# Altium footprint library PCB-Tester-Relay-Board.PcbLib: 41 footprints (part 3 of 3)
Each footprint in its own frame and in the unit in brackets; x right, y up, seen from the top. Pads: shape width x height; smd on the part's side, far side on the other; paste and mask are expansions set on the pad; w line width, h text height; cw(c..) or ccw(c..) is an arc to the next point about the centre after c.
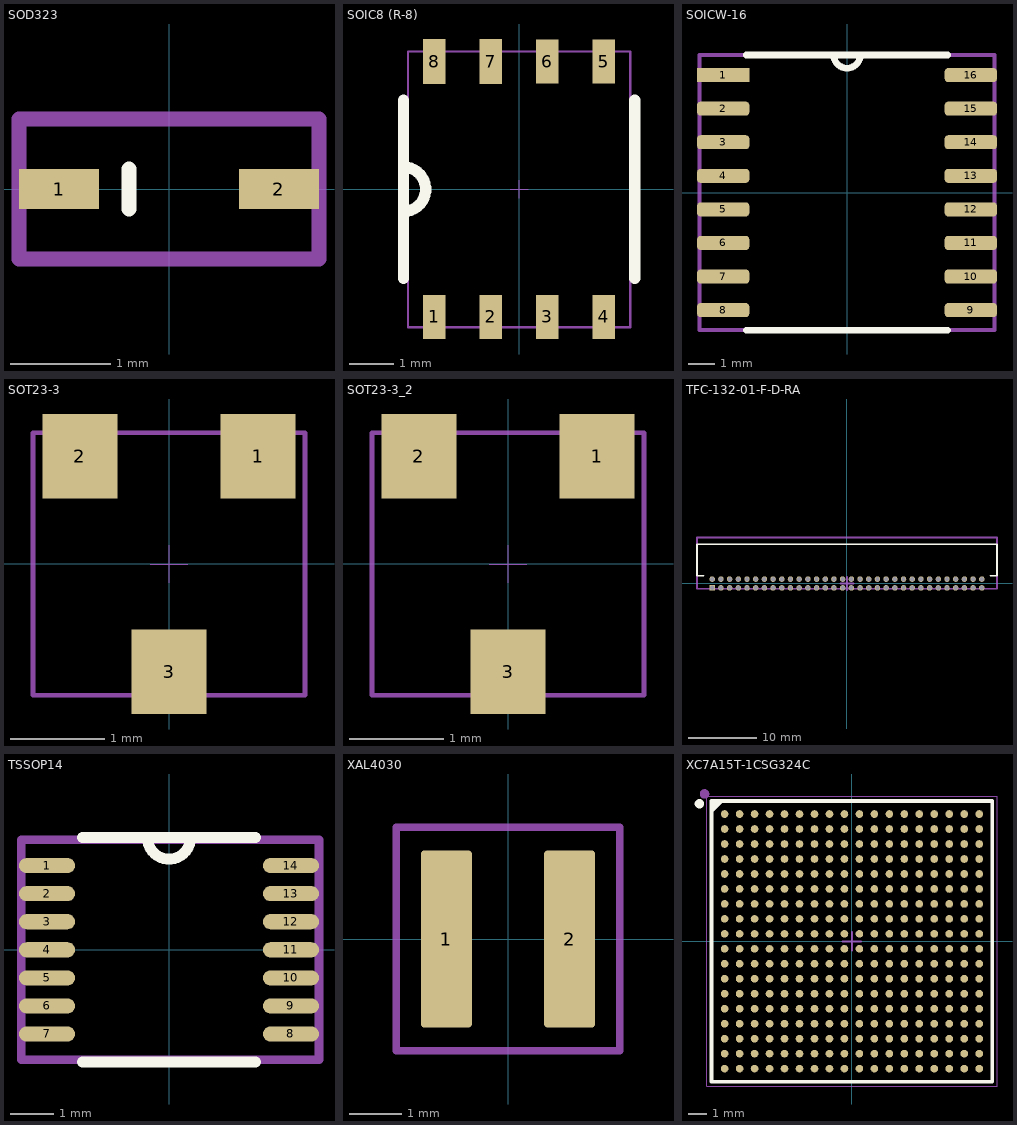
[diagram p2: the footprints below, top view; thin cyan lines are the x and y axes]

## SOD323 [mm] "Plastic surface-mounted package; 2 leads"
height 1
pads (2):
  rect 0.8x0.4 smd: 1(-1.1,0) 2(1.1,0)
Top Overlay:
  lines w0.152: -0.4,-0.2 -0.4,0.2
Top Courtyard:
  lines w0.152: -1.5,-0.7 -1.5,0.7 1.5,0.7 1.5,-0.7 0,-0.7 -1.5,-0.7
3D body: height 0.15, standoff 0, extent 1,-0.15 1.35,0.15
3D body: height 0.6, standoff 0, extent 0.9,-0.15 1,0.15
3D body: height 0.6, standoff 0, extent -1,-0.15 -0.9,0.15
3D body: height 0.15, standoff 0, extent -1.35,-0.15 -1,0.15
3D body: height 1.01, standoff 1, extent -0.6,-0.4 -0.4,0.4
3D body: height 1, standoff 0, extent -0.9,-0.7 0.9,0.7

## SOIC8 (R-8) [mil] "Generic 8 lead SOIC Narrow Body"
height 69
pads (8):
  rect 20x39 smd: 1(-75,-113) 2(-25,-113) 3(25,-113) 4(75,-113) 5(75,113) 6(25,113)
  rect 20x40 smd: 7(-25,113) 8(-75,113)
Top Overlay:
  lines w10: -102.36,-78.74 -102.36,78.74 ; -102.36,-19.68 ccw(c-102.36,0) -102.36,19.68 ; 102.36,-78.74 102.36,78.74
Top Courtyard:
  lines w1.97: -98.42,-122.04 -98.42,122.06 98.43,122.06 98.43,-122.04 -98.42,-122.04
Mechanical 17:
  lines w0.51: -7.87,0 7.87,0 ; 0,-7.87 0,7.87
3D body "SOIC8N.step": height 68.9, standoff 0, extent -98.42,-122.04 98.43,122.06

## SOICW-16 [mm] "16-lead wide SOIC package"
height 2.65
pads (16):
  rect 1.98x0.53 smd: 1(-4.685,4.445)
  rrect50% 1.98x0.53 smd: 2(-4.685,3.175) 3(-4.685,1.905) 4(-4.685,0.635) 5(-4.685,-0.635) 6(-4.685,-1.905) 7(-4.685,-3.175) 8(-4.685,-4.445) 9(4.685,-4.445) 10(4.685,-3.175) 11(4.685,-1.905) 12(4.685,-0.635) 13(4.685,0.635) 14(4.685,1.905) 15(4.685,3.175) 16(4.685,4.445)
Top Overlay:
  lines w0.254: -3.81,-5.207 3.81,-5.207 ; -3.81,5.207 3.81,5.207 ; -0.5,5.207 ccw(c0,5.207) 0.5,5.207
Top Courtyard:
  lines w0.15: -5.588,-5.207 5.588,-5.207 5.588,5.207 -5.588,5.207 -5.588,-5.207
3D body: height 1.45, standoff 1.2, extent -4.275,-4.645 -3.8,-4.245
3D body: height 1.45, standoff 0, extent -4.525,-4.645 -4.275,-4.245
3D body: height 0.25, standoff 0, extent -5.325,-4.645 -4.525,-4.245
3D body: height 0.25, standoff 0, extent 4.525,-4.645 5.325,-4.245
3D body: height 1.45, standoff 0, extent 4.275,-4.645 4.525,-4.245
3D body: height 1.45, standoff 1.2, extent 3.8,-4.645 4.275,-4.245
3D body: height 1.45, standoff 1.2, extent -4.275,-3.375 -3.8,-2.975
3D body: height 1.45, standoff 0, extent -4.525,-3.375 -4.275,-2.975
3D body: height 0.25, standoff 0, extent -5.325,-3.375 -4.525,-2.975
3D body: height 0.25, standoff 0, extent 4.525,-3.375 5.325,-2.975
3D body: height 1.45, standoff 0, extent 4.275,-3.375 4.525,-2.975
3D body: height 1.45, standoff 1.2, extent 3.8,-3.375 4.275,-2.975
3D body: height 1.45, standoff 1.2, extent -4.275,-2.105 -3.8,-1.705
3D body: height 1.45, standoff 0, extent -4.525,-2.105 -4.275,-1.705
3D body: height 0.25, standoff 0, extent -5.325,-2.105 -4.525,-1.705
3D body: height 0.25, standoff 0, extent 4.525,-2.105 5.325,-1.705
3D body: height 1.45, standoff 0, extent 4.275,-2.105 4.525,-1.705
3D body: height 1.45, standoff 1.2, extent 3.8,-2.105 4.275,-1.705
3D body: height 1.45, standoff 1.2, extent -4.275,-0.835 -3.8,-0.435
3D body: height 1.45, standoff 0, extent -4.525,-0.835 -4.275,-0.435
3D body: height 0.25, standoff 0, extent -5.325,-0.835 -4.525,-0.435
3D body: height 0.25, standoff 0, extent 4.525,-0.835 5.325,-0.435
3D body: height 1.45, standoff 0, extent 4.275,-0.835 4.525,-0.435
3D body: height 1.45, standoff 1.2, extent 3.8,-0.835 4.275,-0.435
3D body: height 1.45, standoff 1.2, extent -4.275,0.435 -3.8,0.835
3D body: height 1.45, standoff 0, extent -4.525,0.435 -4.275,0.835
3D body: height 0.25, standoff 0, extent -5.325,0.435 -4.525,0.835
3D body: height 0.25, standoff 0, extent 4.525,0.435 5.325,0.835
3D body: height 1.45, standoff 0, extent 4.275,0.435 4.525,0.835
3D body: height 1.45, standoff 1.2, extent 3.8,0.435 4.275,0.835
3D body: height 1.45, standoff 1.2, extent -4.275,1.705 -3.8,2.105
3D body: height 1.45, standoff 0, extent -4.525,1.705 -4.275,2.105
3D body: height 0.25, standoff 0, extent -5.325,1.705 -4.525,2.105
3D body: height 0.25, standoff 0, extent 4.525,1.705 5.325,2.105
3D body: height 1.45, standoff 0, extent 4.275,1.705 4.525,2.105
3D body: height 1.45, standoff 1.2, extent 3.8,1.705 4.275,2.105
3D body: height 1.45, standoff 1.2, extent -4.275,2.975 -3.8,3.375
3D body: height 1.45, standoff 0, extent -4.525,2.975 -4.275,3.375
3D body: height 0.25, standoff 0, extent -5.325,2.975 -4.525,3.375
3D body: height 0.25, standoff 0, extent 4.525,2.975 5.325,3.375
3D body: height 1.45, standoff 0, extent 4.275,2.975 4.525,3.375
3D body: height 1.45, standoff 1.2, extent 3.8,2.975 4.275,3.375
3D body: height 1.45, standoff 1.2, extent -4.275,4.245 -3.8,4.645
3D body: height 1.45, standoff 0, extent -4.525,4.245 -4.275,4.645
3D body: height 0.25, standoff 0, extent -5.325,4.245 -4.525,4.645
3D body: height 0.25, standoff 0, extent 4.525,4.245 5.325,4.645
3D body: height 1.45, standoff 0, extent 4.275,4.245 4.525,4.645
3D body: height 1.45, standoff 1.2, extent 3.8,4.245 4.275,4.645
3D body: height 2.65, standoff 0, extent -3.8,-5.25 3.8,5.25
3D body: height 2.66, standoff 2.65, extent -3.298,3.809 -2.3,4.805

## SOT23-3 [mm]
pads (3):
  rect 0.8x0.9 smd mask+0.1: 1(0.95,1.15) 2(-0.95,1.15) 3(0,-1.15)
Top Courtyard:
  lines w0.05: -1.45,-1.4 1.45,-1.4 1.45,1.4 -1.45,1.4 -1.45,-1.4
Mechanical 17:
  lines w0.013: -0.2,0 0.2,0 ; 0,-0.2 0,0.2
3D body "SOT23-3.step": height 1.3, standoff 0, extent -1.45,-1.4 1.45,1.4

## SOT23-3_2 [mm]
pads (3):
  rect 0.8x0.9 smd mask+0.1: 1(0.95,1.15) 2(-0.95,1.15) 3(0,-1.15)
Top Courtyard:
  lines w0.05: -1.45,-1.4 1.45,-1.4 1.45,1.4 -1.45,1.4 -1.45,-1.4
Mechanical 17:
  lines w0.013: -0.2,0 0.2,0 ; 0,-0.2 0,0.2
3D body "SOT23-3.step": height 1.3, standoff 0, extent -1.45,-1.4 1.45,1.4

## TFC-132-01-F-D-RA [mm] "64 pin box header right angled"
pads (64):
  rect 0.8x0.8 hole 0.635 paste+0: 1(-19.685,-0.635)
  round 0.8 hole 0.635 paste+0: 2(-19.685,0.635) 3(-18.415,-0.635) 4(-18.415,0.635) 5(-17.145,-0.635) 6(-17.145,0.635) 7(-15.875,-0.635) 8(-15.875,0.635) 9(-14.605,-0.635) 10(-14.605,0.635) 11(-13.335,-0.635) 12(-13.335,0.635) 13(-12.065,-0.635) 14(-12.065,0.635) 15(-10.795,-0.635) 16(-10.795,0.635) 17(-9.525,-0.635) 18(-9.525,0.635) 19(-8.255,-0.635) 20(-8.255,0.635) 21(-6.985,-0.635) 22(-6.985,0.635) 23(-5.715,-0.635) 24(-5.715,0.635) 25(-4.445,-0.635) 26(-4.445,0.635) 27(-3.175,-0.635) 28(-3.175,0.635) 29(-1.905,-0.635) 30(-1.905,0.635) 31(-0.635,-0.635) 32(-0.635,0.635) 33(0.635,-0.635) 34(0.635,0.635) 35(1.905,-0.635) 36(1.905,0.635) 37(3.175,-0.635) 38(3.175,0.635) 39(4.445,-0.635) 40(4.445,0.635) 41(5.715,-0.635) 42(5.715,0.635) 43(6.985,-0.635) 44(6.985,0.635) 45(8.255,-0.635) 46(8.255,0.635) 47(9.525,-0.635) 48(9.525,0.635)
  round 0.8 hole 0.635 paste-1: 49(10.795,-0.635) 50(10.795,0.635) 51(12.065,-0.635) 52(12.065,0.635) 53(13.335,-0.635) 54(13.335,0.635) 55(14.605,-0.635) 56(14.605,0.635) 57(15.875,-0.635) 58(15.875,0.635) 59(17.145,-0.635) 60(17.145,0.635) 61(18.415,-0.635) 62(18.415,0.635) 63(19.685,-0.635) 64(19.685,0.635)
Top Overlay:
  lines w0.254: -20.955,1.143 -21.907,1.143 -21.907,5.731 21.908,5.731 21.908,1.143 20.955,1.143
Top Courtyard:
  lines w0.254: -21.907,-0.762 21.908,-0.762 21.908,6.731 -21.907,6.731 -21.907,-0.762
Mechanical 17:
  lines w0.254: -1,0 1,0 ; 0,-1 0,1
3D body "TFC-132-01-F-D-RA.STEP": height 5.71, standoff -1.91, extent -21.907,-0.762 21.908,6.731

## TSSOP14 [mm]
height 1.1
pads (14):
  oval 1.3x0.35 smd: 1(-2.825,1.95) 2(-2.825,1.3) 3(-2.825,0.65) 4(-2.825,0) 5(-2.825,-0.65) 6(-2.825,-1.3) 7(-2.825,-1.95) 8(2.825,-1.95) 9(2.825,-1.3) 10(2.825,-0.65) 11(2.825,0) 12(2.825,0.65) 13(2.825,1.3) 14(2.825,1.95)
Top Overlay:
  lines w0.254: -2,-2.6 2,-2.6 ; -2,2.6 2,2.6 ; -0.5,2.6 ccw(c0,2.6) 0.5,2.6
Top Courtyard:
  lines w0.2: -3.424,-2.55 -3.424,2.55 3.475,2.55 3.475,-2.55 -3.424,-2.55
3D body: height 1.1, standoff 0.05, extent -2.25,-2.55 2.25,2.55

## XAL4030 [mm] "Shielded Power Inductor"
height 3.1
pads (2):
  rrect12% 0.98x3.4 smd: 1(-1.185,0) 2(1.185,0)
Top Courtyard:
  lines w0.15: -2.15,-2.15 2.15,-2.15 2.15,2.15 -2.15,2.15 -2.15,-2.15
3D body: height 3.1, standoff 3.1, extent -1.7,-1.7 -1.4,1.7
3D body: height 3.1, standoff 0, extent -2.15,-2.15 2.15,2.15

## XC7A15T-1CSG324C [mm] "BGA, 324-Leads, Body 15.00x15.00mmx1.50mm, Pitch 0.80mm"
height 1.5
pads (324):
  round 0.41 smd: A1(-6.8,6.8) A2(-6,6.8) A3(-5.2,6.8) A4(-4.4,6.8) A5(-3.6,6.8) A6(-2.8,6.8) A7(-2,6.8) A8(-1.2,6.8) A9(-0.4,6.8) A10(0.4,6.8) A11(1.2,6.8) A12(2,6.8) A13(2.8,6.8) A14(3.6,6.8) A15(4.4,6.8) A16(5.2,6.8) A17(6,6.8) A18(6.8,6.8) B1(-6.8,6) B2(-6,6) B3(-5.2,6) B4(-4.4,6) B5(-3.6,6) B6(-2.8,6) B7(-2,6) B8(-1.2,6) B9(-0.4,6) B10(0.4,6) B11(1.2,6) B12(2,6) B13(2.8,6) B14(3.6,6) B15(4.4,6) B16(5.2,6) B17(6,6) B18(6.8,6) C1(-6.8,5.2) C2(-6,5.2) C3(-5.2,5.2) C4(-4.4,5.2) C5(-3.6,5.2) C6(-2.8,5.2) C7(-2,5.2) C8(-1.2,5.2) C9(-0.4,5.2) C10(0.4,5.2) C11(1.2,5.2) C12(2,5.2) C13(2.8,5.2) C14(3.6,5.2) C15(4.4,5.2) C16(5.2,5.2) C17(6,5.2) C18(6.8,5.2) D1(-6.8,4.4) D2(-6,4.4) D3(-5.2,4.4) D4(-4.4,4.4) D5(-3.6,4.4) D6(-2.8,4.4) D7(-2,4.4) D8(-1.2,4.4) D9(-0.4,4.4) D10(0.4,4.4) D11(1.2,4.4) D12(2,4.4) D13(2.8,4.4) D14(3.6,4.4) D15(4.4,4.4) D16(5.2,4.4) D17(6,4.4) D18(6.8,4.4) E1(-6.8,3.6) E2(-6,3.6) E3(-5.2,3.6) E4(-4.4,3.6) E5(-3.6,3.6) E6(-2.8,3.6) E7(-2,3.6) E8(-1.2,3.6) E9(-0.4,3.6) E10(0.4,3.6) E11(1.2,3.6) E12(2,3.6) E13(2.8,3.6) E14(3.6,3.6) E15(4.4,3.6) E16(5.2,3.6) E17(6,3.6) E18(6.8,3.6) F1(-6.8,2.8) F2(-6,2.8) F3(-5.2,2.8) F4(-4.4,2.8) F5(-3.6,2.8) F6(-2.8,2.8) F7(-2,2.8) F8(-1.2,2.8) F9(-0.4,2.8) F10(0.4,2.8) F11(1.2,2.8) F12(2,2.8) F13(2.8,2.8) F14(3.6,2.8) F15(4.4,2.8) F16(5.2,2.8) F17(6,2.8) F18(6.8,2.8) G1(-6.8,2) G2(-6,2) G3(-5.2,2) G4(-4.4,2) G5(-3.6,2) G6(-2.8,2) G7(-2,2) G8(-1.2,2) G9(-0.4,2) G10(0.4,2) G11(1.2,2) G12(2,2) G13(2.8,2) G14(3.6,2) G15(4.4,2) G16(5.2,2) G17(6,2) G18(6.8,2) H1(-6.8,1.2) H2(-6,1.2) H3(-5.2,1.2) H4(-4.4,1.2) H5(-3.6,1.2) H6(-2.8,1.2) H7(-2,1.2) H8(-1.2,1.2) H9(-0.4,1.2) H10(0.4,1.2) H11(1.2,1.2) H12(2,1.2) H13(2.8,1.2) H14(3.6,1.2) H15(4.4,1.2) H16(5.2,1.2) H17(6,1.2) H18(6.8,1.2) J1(-6.8,0.4) J2(-6,0.4) J3(-5.2,0.4) J4(-4.4,0.4) J5(-3.6,0.4) J6(-2.8,0.4) J7(-2,0.4) J8(-1.2,0.4) J9(-0.4,0.4) J10(0.4,0.4) J11(1.2,0.4) J12(2,0.4) J13(2.8,0.4) J14(3.6,0.4) J15(4.4,0.4) J16(5.2,0.4) J17(6,0.4) J18(6.8,0.4) K1(-6.8,-0.4) K2(-6,-0.4) K3(-5.2,-0.4) K4(-4.4,-0.4) K5(-3.6,-0.4) K6(-2.8,-0.4) K7(-2,-0.4) K8(-1.2,-0.4) K9(-0.4,-0.4) K10(0.4,-0.4) K11(1.2,-0.4) K12(2,-0.4) K13(2.8,-0.4) K14(3.6,-0.4) K15(4.4,-0.4) K16(5.2,-0.4) K17(6,-0.4) K18(6.8,-0.4) L1(-6.8,-1.2) L2(-6,-1.2) L3(-5.2,-1.2) L4(-4.4,-1.2) L5(-3.6,-1.2) L6(-2.8,-1.2) L7(-2,-1.2) L8(-1.2,-1.2) L9(-0.4,-1.2) L10(0.4,-1.2) L11(1.2,-1.2) L12(2,-1.2) L13(2.8,-1.2) L14(3.6,-1.2) L15(4.4,-1.2) L16(5.2,-1.2) L17(6,-1.2) L18(6.8,-1.2) M1(-6.8,-2) M2(-6,-2) M3(-5.2,-2) M4(-4.4,-2) M5(-3.6,-2) M6(-2.8,-2) M7(-2,-2) M8(-1.2,-2) M9(-0.4,-2) M10(0.4,-2) M11(1.2,-2) M12(2,-2) M13(2.8,-2) M14(3.6,-2) M15(4.4,-2) M16(5.2,-2) M17(6,-2) M18(6.8,-2) N1(-6.8,-2.8) N2(-6,-2.8) N3(-5.2,-2.8) N4(-4.4,-2.8) N5(-3.6,-2.8) N6(-2.8,-2.8) N7(-2,-2.8) N8(-1.2,-2.8) N9(-0.4,-2.8) N10(0.4,-2.8) N11(1.2,-2.8) N12(2,-2.8) N13(2.8,-2.8) N14(3.6,-2.8) N15(4.4,-2.8) N16(5.2,-2.8) N17(6,-2.8) N18(6.8,-2.8) P1(-6.8,-3.6) P2(-6,-3.6) P3(-5.2,-3.6) P4(-4.4,-3.6) P5(-3.6,-3.6) P6(-2.8,-3.6) P7(-2,-3.6) P8(-1.2,-3.6) P9(-0.4,-3.6) P10(0.4,-3.6) P11(1.2,-3.6) P12(2,-3.6) P13(2.8,-3.6) P14(3.6,-3.6) P15(4.4,-3.6) P16(5.2,-3.6) P17(6,-3.6) P18(6.8,-3.6) R1(-6.8,-4.4) R2(-6,-4.4) R3(-5.2,-4.4) R4(-4.4,-4.4) R5(-3.6,-4.4) R6(-2.8,-4.4) R7(-2,-4.4) R8(-1.2,-4.4) R9(-0.4,-4.4) R10(0.4,-4.4) R11(1.2,-4.4) R12(2,-4.4) R13(2.8,-4.4) R14(3.6,-4.4) R15(4.4,-4.4) R16(5.2,-4.4) R17(6,-4.4) R18(6.8,-4.4) T1(-6.8,-5.2) T2(-6,-5.2) T3(-5.2,-5.2) T4(-4.4,-5.2) T5(-3.6,-5.2) T6(-2.8,-5.2) T7(-2,-5.2) T8(-1.2,-5.2) T9(-0.4,-5.2) T10(0.4,-5.2) T11(1.2,-5.2) T12(2,-5.2) T13(2.8,-5.2) T14(3.6,-5.2) T15(4.4,-5.2) T16(5.2,-5.2) T17(6,-5.2) T18(6.8,-5.2) U1(-6.8,-6) U2(-6,-6) U3(-5.2,-6) U4(-4.4,-6) U5(-3.6,-6) U6(-2.8,-6) U7(-2,-6) U8(-1.2,-6) U9(-0.4,-6) U10(0.4,-6) U11(1.2,-6) U12(2,-6) U13(2.8,-6) U14(3.6,-6) U15(4.4,-6) U16(5.2,-6) U17(6,-6) U18(6.8,-6) V1(-6.8,-6.8) V2(-6,-6.8) V3(-5.2,-6.8) V4(-4.4,-6.8) V5(-3.6,-6.8) V6(-2.8,-6.8) V7(-2,-6.8) V8(-1.2,-6.8) V9(-0.4,-6.8) V10(0.4,-6.8) V11(1.2,-6.8) V12(2,-6.8) V13(2.8,-6.8) V14(3.6,-6.8) V15(4.4,-6.8) V16(5.2,-6.8) V17(6,-6.8) V18(6.8,-6.8)
Top Overlay:
  circle w0.25: c-8.15,7.35 r0.125
  region: -6.956,7.5 -7.5,6.956 -7.5,7.5
  lines w0.2: -7.5,6.956 -6.956,7.5 ; -7.5,-7.5 7.5,-7.5 7.5,7.5 -7.5,7.5 -7.5,-7.5
Top Courtyard:
  lines w0.05: -7.75,-7.75 7.75,-7.75 7.75,7.75 -7.75,7.75 -7.75,-7.75
Top Component Outline:
  circle w0.254: c-7.874,7.874 r0.127
Mechanical 17:
  lines w0.1: -0.5,0 0.5,0 ; 0,-0.5 0,0.5
3D body "XC7A15T-1CSG324C.STEP": height 1.5, standoff 0, extent -7.5,-7.5 7.5,7.5